# Altium footprint library PCB1.PcbLib: 37 footprints (part 3 of 3)
Each footprint in its own frame and in the unit in brackets; x right, y up, seen from the top. Pads: shape width x height; smd on the part's side, far side on the other; paste and mask are expansions set on the pad; w line width, h text height; cw(c..) or ccw(c..) is an arc to the next point about the centre after c.
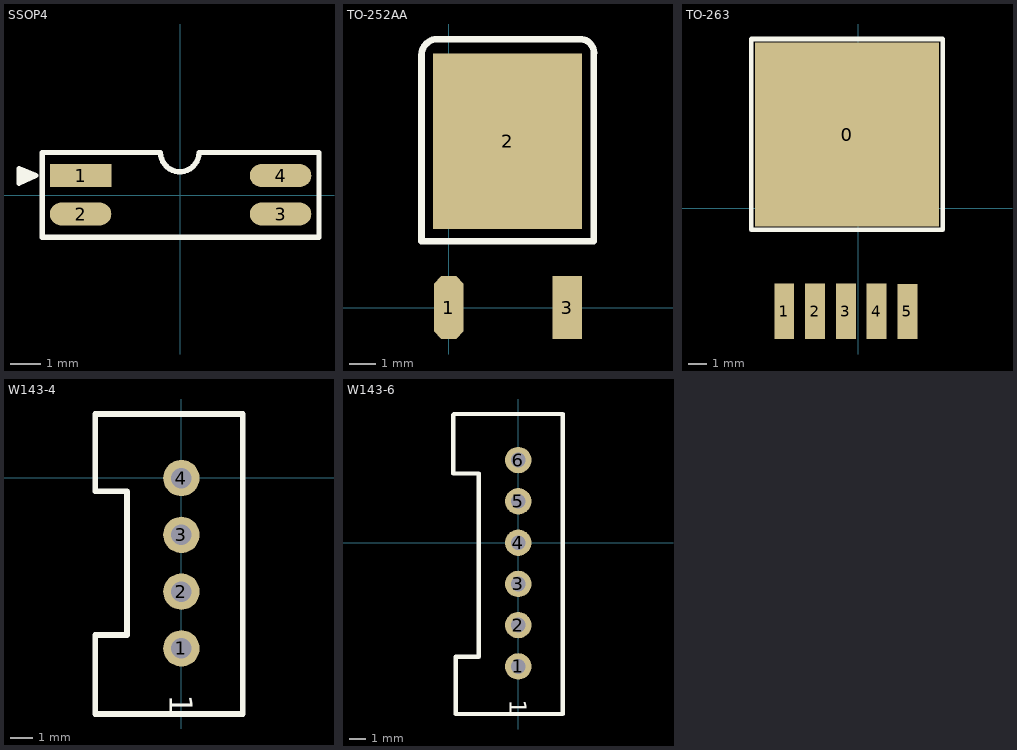
[diagram p2: the footprints below, top view; thin cyan lines are the x and y axes]

## SSOP4 [mil]
pads (4):
  rect 80x30 smd: 1(-129.69,25.43)
  oval 80x30 smd: 2(-129.69,-24.57) 3(130.31,-24.57) 4(130.31,25.43)
Top Overlay:
  region: -209.69,29.43 -209.69,20.43 -196.69,20.43 -196.69,29.43
  lines w7: -209.69,15.43 -209.69,34.43 -187.69,25.43 -209.69,15.43 ; -179.69,-54.57 -179.69,55.43 -25.68,55.43 ccw(c-0.69,55.43) 24.32,55.43 180.31,55.43 180.31,-54.57 -179.69,-54.57

## TO-252AA [mil]
pads (3):
  oct 45x95 smd: 1(0,0.38)
  rect 225x265 smd: 2(89,251.38)
  rect 45x95 smd: 3(179,0.38)
Top Overlay:
  lines w10: -41,100.38 219,100.38 219,381.38 ccw(c198,384.38) 201,405.38 -17,405.38 ccw(c-17,381.38) -41,381.38 -41,100.38

## TO-263 [mm]
pads (6):
  rect 10.16x10.16 smd: 0(-0.61,4.064)
  rect 1.1x3.048 smd: 1(-4.076,-5.7) 2(-2.376,-5.7) 3(-0.676,-5.7) 4(1.024,-5.7) 5(2.726,-5.708)
Top Overlay:
  lines w0.254: -5.893,-1.194 4.674,-1.194 ; -5.893,-1.168 -5.893,9.347 4.674,9.347 4.674,-1.168

## W143-4 [mm]
pads (4):
  round 1.6 hole 0.9: 1(0.005,-7.506) 2(0.005,-5.006) 3(0.005,-2.506) 4(0.005,-0.006)
Top Overlay:
  lines w0.254: -2.399,-0.586 -3.787,-0.586 -3.787,2.814 -2.535,2.814 2.705,2.814 2.705,-10.394 -2.375,-10.394 -3.787,-10.394 -3.787,-6.918 -2.387,-6.918 -2.387,-0.598
  text "1" at -0.515,-9.542 h1.02

## W143-6 [mm]
pads (6):
  round 1.6 hole 0.9: 1(0.005,-7.506) 2(0.005,-5.006) 3(0.005,-2.506) 4(0.005,-0.006) 5(0.005,2.506) 6(0.005,5.006)
Top Overlay:
  lines w0.254: 2.705,7.747 2.705,-10.394 -2.375,-10.394 -3.787,-10.394 -3.787,-6.918 -2.387,-6.918 -2.387,4.191 -3.937,4.191 -3.937,7.747 -3.884,7.8 2.705,7.8
  text "1" at -0.515,-9.542 h1.02